# Altium schematic symbol library SCH - MCU - STM32 - ST MICROELECTRONICS STM32L071R(B-Z)HX TFBGA64.SchLib: 1 symbol
Pins are listed as number, name and electrical type; pins without a type are passive.

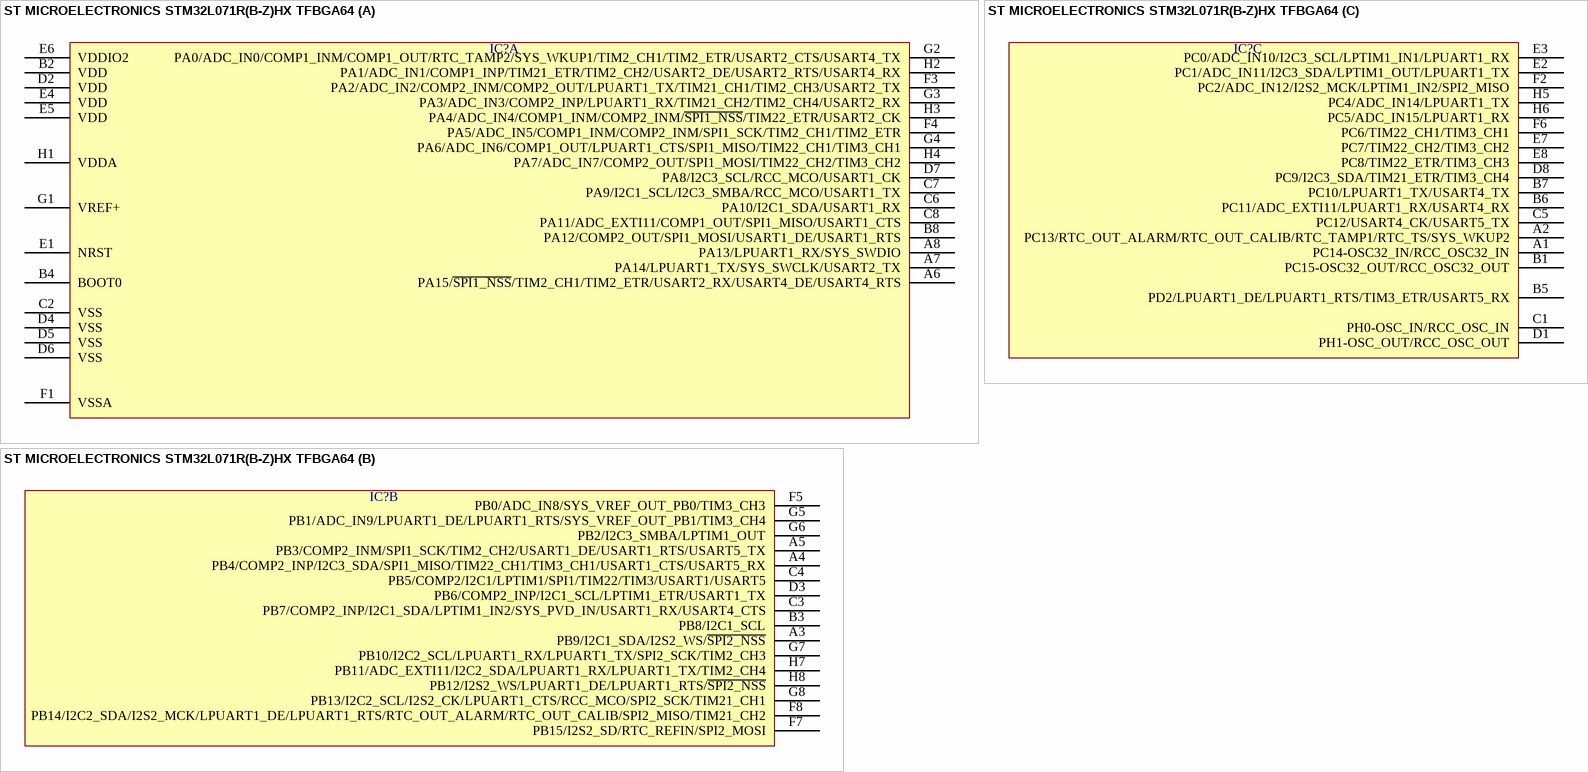
[diagram p0: symbol ST MICROELECTRONICS STM32L071R(B-Z)HX TFBGA64]

## ST MICROELECTRONICS STM32L071R(B-Z)HX TFBGA64
designator IC?  (value not drawn)
part A pins: A6 PA15/~{SPI1_NSS}/TIM2_CH1/TIM2_ETR/USART2_RX/USART4_DE/USART4_RTS, A7 PA14/LPUART1_TX/SYS_SWCLK/USART2_TX, A8 PA13/LPUART1_RX/SYS_SWDIO, B2 VDD, B4 BOOT0, B8 PA12/COMP2_OUT/SPI1_MOSI/USART1_DE/USART1_RTS, C2 VSS, C6 PA10/I2C1_SDA/USART1_RX, C7 PA9/I2C1_SCL/I2C3_SMBA/RCC_MCO/USART1_TX, C8 PA11/ADC_EXTI11/COMP1_OUT/SPI1_MISO/USART1_CTS, D2 VDD, D4 VSS, D5 VSS, D6 VSS, D7 PA8/I2C3_SCL/RCC_MCO/USART1_CK, E1 NRST, E4 VDD, E5 VDD, E6 VDDIO2, F1 VSSA, F3 PA2/ADC_IN2/COMP2_INM/COMP2_OUT/LPUART1_TX/TIM21_CH1/TIM2_CH3/USART2_TX, F4 PA5/ADC_IN5/COMP1_INM/COMP2_INM/SPI1_SCK/TIM2_CH1/TIM2_ETR, G1 VREF+, G2 PA0/ADC_IN0/COMP1_INM/COMP1_OUT/RTC_TAMP2/SYS_WKUP1/TIM2_CH1/TIM2_ETR/USART2_CTS/USART4_TX, G3 PA3/ADC_IN3/COMP2_INP/LPUART1_RX/TIM21_CH2/TIM2_CH4/USART2_RX, G4 PA6/ADC_IN6/COMP1_OUT/LPUART1_CTS/SPI1_MISO/TIM22_CH1/TIM3_CH1, H1 VDDA, H2 PA1/ADC_IN1/COMP1_INP/TIM21_ETR/TIM2_CH2/USART2_DE/USART2_RTS/USART4_RX, H3 PA4/ADC_IN4/COMP1_INM/COMP2_INM/~{SPI1_NSS}/TIM22_ETR/USART2_CK, H4 PA7/ADC_IN7/COMP2_OUT/SPI1_MOSI/TIM22_CH2/TIM3_CH2
part B pins: A3 PB9/I2C1_SDA/I2S2_WS/~{SPI2_NSS}, A4 PB4/COMP2_INP/I2C3_SDA/SPI1_MISO/TIM22_CH1/TIM3_CH1/USART1_CTS/USART5_RX, A5 PB3/COMP2_INM/SPI1_SCK/TIM2_CH2/USART1_DE/USART1_RTS/USART5_TX, B3 PB8/I2C1_SCL, C3 PB7/COMP2_INP/I2C1_SDA/LPTIM1_IN2/SYS_PVD_IN/USART1_RX/USART4_CTS, C4 PB5/COMP2/I2C1/LPTIM1/SPI1/TIM22/TIM3/USART1/USART5, D3 PB6/COMP2_INP/I2C1_SCL/LPTIM1_ETR/USART1_TX, F5 PB0/ADC_IN8/SYS_VREF_OUT_PB0/TIM3_CH3, F7 PB15/I2S2_SD/RTC_REFIN/SPI2_MOSI, F8 PB14/I2C2_SDA/I2S2_MCK/LPUART1_DE/LPUART1_RTS/RTC_OUT_ALARM/RTC_OUT_CALIB/SPI2_MISO/TIM21_CH2, G5 PB1/ADC_IN9/LPUART1_DE/LPUART1_RTS/SYS_VREF_OUT_PB1/TIM3_CH4, G6 PB2/I2C3_SMBA/LPTIM1_OUT, G7 PB10/I2C2_SCL/LPUART1_RX/LPUART1_TX/SPI2_SCK/TIM2_CH3, G8 PB13/I2C2_SCL/I2S2_CK/LPUART1_CTS/RCC_MCO/SPI2_SCK/TIM21_CH1, H7 PB11/ADC_EXTI11/I2C2_SDA/LPUART1_RX/LPUART1_TX/TIM2_CH4, H8 PB12/I2S2_WS/LPUART1_DE/LPUART1_RTS/~{SPI2_NSS}
part C pins: A1 PC14-OSC32_IN/RCC_OSC32_IN, A2 PC13/RTC_OUT_ALARM/RTC_OUT_CALIB/RTC_TAMP1/RTC_TS/SYS_WKUP2, B1 PC15-OSC32_OUT/RCC_OSC32_OUT, B5 PD2/LPUART1_DE/LPUART1_RTS/TIM3_ETR/USART5_RX, B6 PC11/ADC_EXTI11/LPUART1_RX/USART4_RX, B7 PC10/LPUART1_TX/USART4_TX, C1 PH0-OSC_IN/RCC_OSC_IN, C5 PC12/USART4_CK/USART5_TX, D1 PH1-OSC_OUT/RCC_OSC_OUT, D8 PC9/I2C3_SDA/TIM21_ETR/TIM3_CH4, E2 PC1/ADC_IN11/I2C3_SDA/LPTIM1_OUT/LPUART1_TX, E3 PC0/ADC_IN10/I2C3_SCL/LPTIM1_IN1/LPUART1_RX, E7 PC7/TIM22_CH2/TIM3_CH2, E8 PC8/TIM22_ETR/TIM3_CH3, F2 PC2/ADC_IN12/I2S2_MCK/LPTIM1_IN2/SPI2_MISO, F6 PC6/TIM22_CH1/TIM3_CH1, H5 PC4/ADC_IN14/LPUART1_TX, H6 PC5/ADC_IN15/LPUART1_RX